# Altium schematic symbol library Schlib1.SchLib: 3 symbols
Pins are listed as number, name and electrical type; pins without a type are passive.

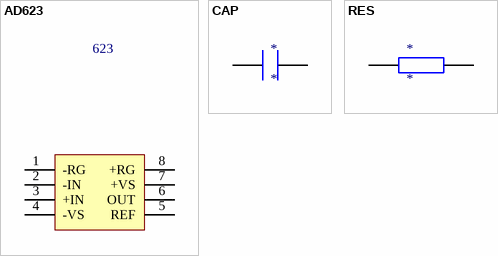
[diagram p0: symbols AD623 to RES]

## AD623
designator U?, comment 623
IC
pins: 1 -RG, 2 -IN, 3 +IN, 4 -VS, 5 REF, 6 OUT, 7 +VS, 8 +RG

## CAP
designator *
电容
pins: 1, 2

## RES
designator *
电阻
pins: 1, 2